# Altium schematic symbol library SCH - DIODES - NXP PRTR5V0U2X.SCHLIB: 1 symbol
Pins are listed as number, name and electrical type; pins without a type are passive.

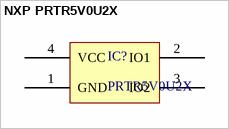
[diagram p0: symbol NXP PRTR5V0U2X]

## NXP PRTR5V0U2X
designator IC?, comment PRTR5V0U2X
Ultra low capacitance double rail-to-rail ESD protection diode
pins: 1 GND, 2 IO1, 3 IO2, 4 VCC